# EAGLE library part AT45DB041E-SSHN-B (library Common-Parts-Library-Eagle)
AT45DB041 Series 4 Mb Data Flash 1.65 - 3.6 V 85 Mhz - SOIC-8 (150 mil)
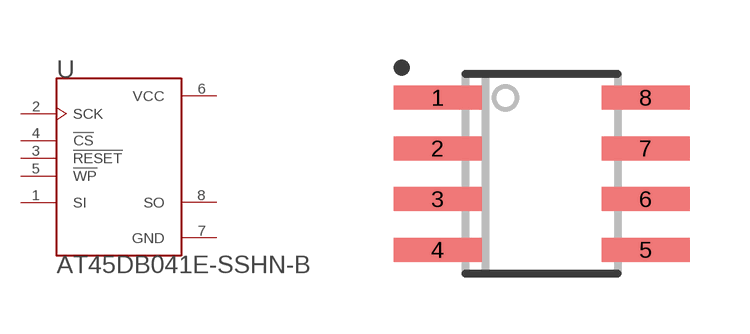
[diagram p74: symbol with the pads of AT45DB041E-SSHN-B_SOIC127P600X175-8N; footprint AT45DB041E-SSHN-B_SOIC127P600X175-8N]

Designator prefix U

## AT45DB041E-SSHN-B (MANUFACTURER: Adesto Technologies)  [AT45DB041E-SSHN-B_SOIC127P600X175-8N]
1  SI  in
2  SCK  in
3  !RESET  in
4  !CS  in
5  !WP  in
6  VCC  pwr
7  GND  pas
8  SO  out

## Footprint AT45DB041E-SSHN-B_SOIC127P600X175-8N (pad centres in mm)
smd 2.2 x 0.6: 1 -2.6,1.905; 2 -2.6,0.635; 3 -2.6,-0.635; 4 -2.6,-1.905; 5 2.6,-1.905; 6 2.6,-0.635; 7 2.6,0.635; 8 2.6,1.905